# EAGLE library part TPS6300X (library m_vreg)
TPS6300x High-Efficient Single Inductor Buck-Boost Converter With 1.8-A Switches Features Input Voltage Range: 1.8 V to 5.5 V Fixed and Adjustable Output Voltage Options from 1.2 V to 5.5 V Up to 96% Efficiency 1200-mA Output Current at 3.3 V in Step-Down Mode (VIN = 3.6 V to 5.5 V) Up to 800-mA Output Current at 3.3 V in Boost Mode (VIN > 2.4 V) Automatic Transition Between Step-Down and Boost Mode Device Quiescent Current less than 50 μA Power-Save Mode for Improved Efficiency at Low Output Power Forced Fixed Frequency Operation and Synchronization Possible Load Disconnect During Shutdown Overtemperature Protection Available in a Small 3-mm × 3-mm 10-Pin VSON Package (QFN) Applications All Two-Cell and Three-Cell Alkaline, NiCd or NiMH or Single-Cell Li Battery Powered Products Portable Audio Players Smart Phones Personal Medical Products White LEDs Description The TPS6300x devices provide a power supply solution for products powered by either a two-cell or three-cell alkaline, NiCd or NiMH battery, or a one- cell Li-ion or Li-polymer battery. Output currents can go as high as 1200 mA while using a single-cell Li-ion or Li-polymer battery, and discharge it down to 2.5 V or lower. The buck-boost converter is based on a fixed frequency, pulse width modulation (PWM) controller using synchronous rectification to obtain maximum efficiency. At low load currents, the converter enters power-save mode to maintain high efficiency over a wide load current range. The power- save mode can be disabled, forcing the converter to operate at a fixed switching frequency. The maximum average current in the switches is limited to a typical value of 1800 mA. The output voltage is programmable using an external resistor divider, or is fixed internally on the chip. The converter can be disabled to minimize battery drain. During shutdown, the load is disconnected from the battery. The TPS6300x devices operate over a free air temperature range of –40°C to 85°C. The devices are packaged in a 10-pin VSON package (QFN) measuring 3 mm × 3 mm (DRC). Data from TI document SLVS520C – MARCH 2006 – REVISED OCTOBER 2015 Octopart <https://octopart.com/search?q=TPS6300%3FDRC%3F> Added 2016-10-10
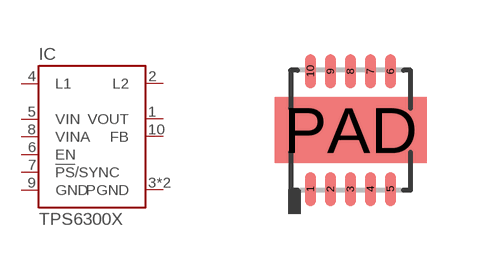
[diagram p13: symbol with the pads of S-PVSON-N10; footprint S-PVSON-N10]

Designator prefix IC

## TPS6300XDRC (MANUF: TI; PARTNUM: TPS6300?DRC?)  [S-PVSON-N10]
1  VOUT  pas
2  L2  pas
3  PGND  pas
4  L1  pas
5  VIN  pas
6  EN  pas
7  !PS!/SYNC  pas
8  VINA  pas
9  GND  pas
10  FB  pas
PAD  PGND  pas

## Footprint S-PVSON-N10 (pad centres in mm)
TI S-PVSON-N10 Package 0.07mm solder mask clearance suggested. Data based on TI Documents 4204102-3/L 09/11, 4206565-3/Y 08/15, 4206987-2/P 04/16
smd 0.28 x 0.85: 1 -1,-1.475; 2 -0.5,-1.475; 3 0,-1.475; 4 0.5,-1.475; 5 1,-1.475; 6 1,1.475; 7 0.5,1.475; 8 0,1.475; 9 -0.5,1.475; 10 -1,1.475
smd 3.8 x 1.65: PAD 0,0